# Altium schematic symbol library conn_header_2.00mm_box_idc.SchLib: 4 symbols
Pins are listed as number, name and electrical type; pins without a type are passive.

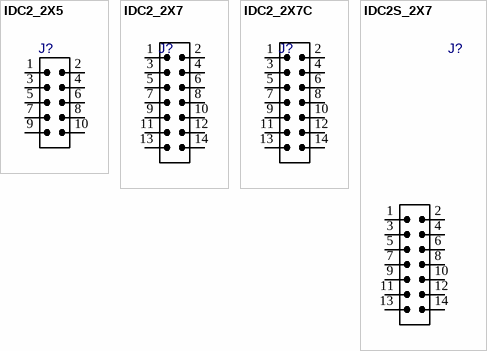
[diagram p0: symbols IDC2_2X5 to IDC2S_2X7]

## IDC2_2X5
designator J?  (value not drawn)
CONN, IDC, Male, pitch: 2.54mm, 10POS; VALUE: IDC2_2X5
footprint IDC2_2X5 (Connector; Header; 2mm Pitch)
pins: 1, 2, 3, 4, 5, 6, 7, 8, 9, 10

## IDC2_2X7
designator J?  (value not drawn)
CONN, IDC, Male, pitch: 2.54mm, 14POS; VALUE: IDC2_2X7
footprint IDC2_2X7 (Connector; Header; 2mm Pitch)
pins: 1, 2, 3, 4, 5, 6, 7, 8, 9, 10, 11, 12, 13, 14

## IDC2_2X7C
designator J?, comment IDC2_2X7  (value not drawn)
CONN, IDC, Male, pitch: 2.54mm, 14POS; MANF_P#: 878311420, mating 875681443; VALUE: IDC2_2X7
footprint IDC2_2X7C (2.00mm Male Box Header, 14p, compact, 878311420, mating 875681443)
pins: 1, 2, 3, 4, 5, 6, 7, 8, 9, 10, 11, 12, 13, 14

## IDC2S_2X7
designator J?, comment IDC2_2X7  (value not drawn)
CONN, IDC, Male, pitch: 2.54mm, 14POS, SMD; MANF_P#: 87832-1420; MANF: MOLEX; DESC: CONN HEADER .100 DUAL; ASSEMBLY: ASSEMBLY; PARAM: PARAM; PRICE: PRICE; VALUE: IDC2_2X7
footprint IDC2S_2X7 (MOLEX 87832-1420)
pins: 1, 2, 3, 4, 5, 6, 7, 8, 9, 10, 11, 12, 13, 14